# Altium schematic symbol library MCU_Texas_SimpleLink.SchLib: 1 symbol
Pins are listed as number, name and electrical type; pins without a type are passive.

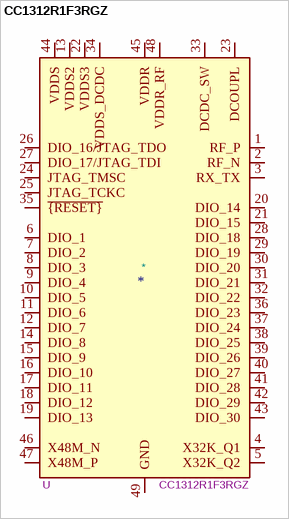
[diagram p0: symbol CC1312R1F3RGZ]

## CC1312R1F3RGZ
designator *  value CC1312R1F3RGZ  Reference: U
ARM Cortex-M4 SimpleLink High-Performance Sub-1GHz Wireless MCU, 48MHz, 352KB Flash, 80KB SRAM, 8KB Cache SRAM, 1.8-3.6V, 30 GPIO, VQFN-48; ki_keywords: 32-bit ARM Cortex-M4 MCU Microcontroller; ki_fp_filters: VQFN*1EP*7x7mm*P0.5mm*; Footprint: Package_DFN_QFN:VQFN-48-1EP_7x7mm_P0.5mm_EP5.15x5.15mm; Datasheet: http://www.ti.com/lit/ds/symlink/cc1312r.pdf; Description_: ARM Cortex-M4 SimpleLink High-Performance Sub-1GHz Wireless MCU, 48MHz, 352KB Flash, 80KB SRAM, 8KB Cache SRAM, 1.8-3.6V, 30 GPIO, VQFN-48
pins: 1 RF_P, 2 RF_N, 3 RX_TX, 4 X32K_Q1, 5 X32K_Q2, 6 DIO_1, 7 DIO_2, 8 DIO_3, 9 DIO_4, 10 DIO_5, 11 DIO_6, 12 DIO_7, 13 VDDS2, 14 DIO_8, 15 DIO_9, 16 DIO_10, 17 DIO_11, 18 DIO_12, 19 DIO_13, 20 DIO_14, 21 DIO_15, 22 VDDS3, 23 DCOUPL, 24 JTAG_TMSC, 25 JTAG_TCKC, 26 DIO_16/JTAG_TDO, 27 DIO_17/JTAG_TDI, 28 DIO_18, 29 DIO_19, 30 DIO_20, 31 DIO_21, 32 DIO_22, 33 DCDC_SW, 34 VDDS_DCDC, 35 ~{{RESET}}, 36 DIO_23, 37 DIO_24, 38 DIO_25, 39 DIO_26, 40 DIO_27, 41 DIO_28, 42 DIO_29, 43 DIO_30, 44 VDDS, 45 VDDR, 46 X48M_N, 47 X48M_P, 48 VDDR_RF, 49 GND